# EAGLE library part EE2 (library CUSTOM)
Compact & Slim 2 Form C Non-polarized Relay NAiS Source: http://www.mew-europe.com/.. en_ds_61011_0000.pdf
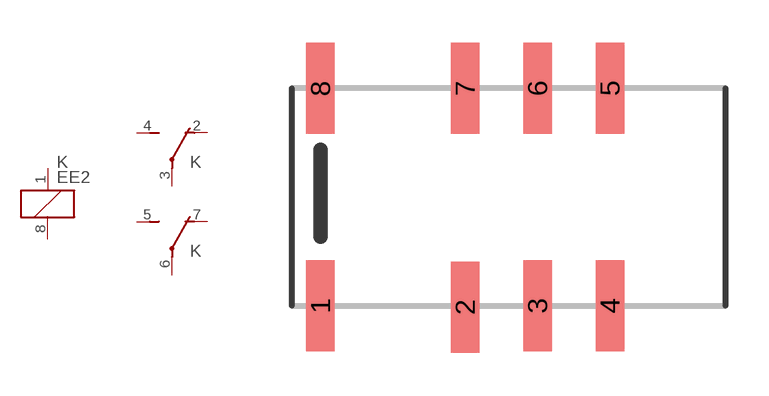
[diagram p2: symbol with the pads of EE2-5NU; footprint EE2-5NU]

Designator prefix K; gates 1=K 2=U 3=U

## EE2  [EE2-5NU]
1  1:1  pas
2  2:O  pas
3  2:P  pas
4  2:S  pas
5  3:S  pas
6  3:P  pas
7  3:O  pas
8  1:2  pas

## Footprint EE2-5NU (pad centres in mm)
Signal Relay - G6J-Y 5.7 x 10.6 x 9 mm Source: http://www.omroncomponents.eu/ .. K125-E2-02-X.pdf
smd 1 x 3.2: 1 -5.08,-5.08; 2 0,-5.14; 3 2.54,-5.08; 4 5.08,-5.08; 5 5.08,2.54; 6 2.54,2.54; 7 0,2.54; 8 -5.08,2.54